# EAGLE library part STM32L496V (library CougsInSpace)
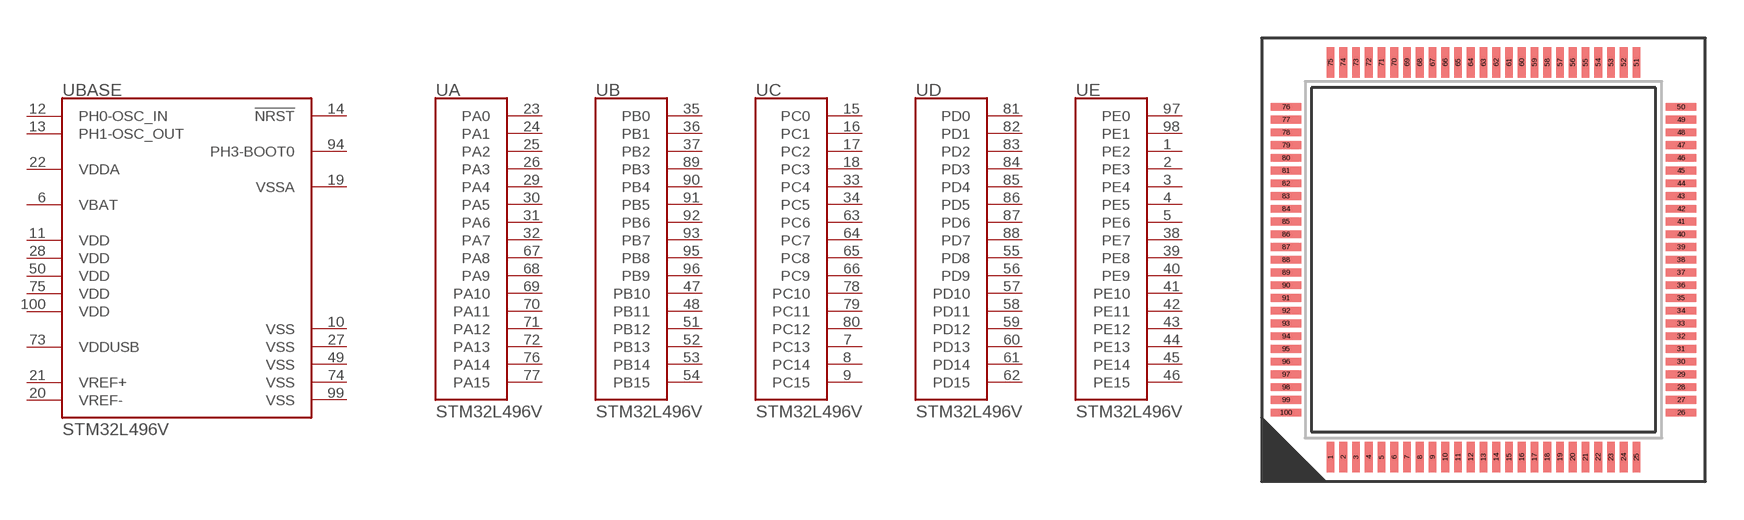
[diagram p18: symbol with the pads of QFP100-14X14; footprint QFP100-14X14]

Designator prefix U; gates BASE=STM32L496_BASE A=GPIO_A B=GPIO_B C=GPIO_C D=GPIO_D E=GPIO_E

## STM32L496VT  [QFP100-14X14]
1  E:PE2
2  E:PE3
3  E:PE4
4  E:PE5
5  E:PE6
6  BASE:VBAT  pas
7  C:PC13
8  C:PC14
9  C:PC15
10  BASE:VSS  pwr
11  BASE:VDD  pwr
12  BASE:PH0-OSC_IN
13  BASE:PH1-OSC_OUT
14  BASE:!NRST  in
15  C:PC0
16  C:PC1
17  C:PC2
18  C:PC3
19  BASE:VSSA  pwr
20  BASE:VREF-  in
21  BASE:VREF+  in
22  BASE:VDDA  pwr
23  A:PA0
24  A:PA1
25  A:PA2
26  A:PA3
27  BASE:VSS  pwr
28  BASE:VDD  pwr
29  A:PA4
30  A:PA5
31  A:PA6
32  A:PA7
33  C:PC4
34  C:PC5
35  B:PB0
36  B:PB1
37  B:PB2
38  E:PE7
39  E:PE8
40  E:PE9
41  E:PE10
42  E:PE11
43  E:PE12
44  E:PE13
45  E:PE14
46  E:PE15
47  B:PB10
48  B:PB11
49  BASE:VSS  pwr
50  BASE:VDD  pwr
51  B:PB12
52  B:PB13
53  B:PB14
54  B:PB15
55  D:PD8
56  D:PD9
57  D:PD10
58  D:PD11
59  D:PD12
60  D:PD13
61  D:PD14
62  D:PD15
63  C:PC6
64  C:PC7
65  C:PC8
66  C:PC9
67  A:PA8
68  A:PA9
69  A:PA10
70  A:PA11
71  A:PA12
72  A:PA13
73  BASE:VDDUSB  pwr
74  BASE:VSS  pwr
75  BASE:VDD  pwr
76  A:PA14
77  A:PA15
78  C:PC10
79  C:PC11
80  C:PC12
81  D:PD0
82  D:PD1
83  D:PD2
84  D:PD3
85  D:PD4
86  D:PD5
87  D:PD6
88  D:PD7
89  B:PB3
90  B:PB4
91  B:PB5
92  B:PB6
93  B:PB7
94  BASE:PH3-BOOT0  in
95  B:PB8
96  B:PB9
97  E:PE0
98  E:PE1
99  BASE:VSS  pwr
100  BASE:VDD  pwr

## Footprint QFP100-14X14 (pad centres in mm)
smd 0.3 x 1.2: 1 -6,-7.75; 2 -5.5,-7.75; 3 -5,-7.75; 4 -4.5,-7.75; 5 -4,-7.75; 6 -3.5,-7.75; 7 -3,-7.75; 8 -2.5,-7.75; 9 -2,-7.75; 10 -1.5,-7.75; 11 -1,-7.75; 12 -0.5,-7.75; 13 0,-7.75; 14 0.5,-7.75; 15 1,-7.75; 16 1.5,-7.75; 17 2,-7.75; 18 2.5,-7.75; 19 3,-7.75; 20 3.5,-7.75; 21 4,-7.75; 22 4.5,-7.75; 23 5,-7.75; 24 5.5,-7.75; 25 6,-7.75; 51 6,7.75; 52 5.5,7.75; 53 5,7.75; 54 4.5,7.75; 55 4,7.75; 56 3.5,7.75; 57 3,7.75; 58 2.5,7.75; 59 2,7.75; 60 1.5,7.75; 61 1,7.75; 62 0.5,7.75; 63 0,7.75; 64 -0.5,7.75; 65 -1,7.75; 66 -1.5,7.75; 67 -2,7.75; 68 -2.5,7.75; 69 -3,7.75; 70 -3.5,7.75; 71 -4,7.75; 72 -4.5,7.75; 73 -5,7.75; 74 -5.5,7.75; 75 -6,7.75
smd 1.2 x 0.3: 26 7.75,-6; 27 7.75,-5.5; 28 7.75,-5; 29 7.75,-4.5; 30 7.75,-4; 31 7.75,-3.5; 32 7.75,-3; 33 7.75,-2.5; 34 7.75,-2; 35 7.75,-1.5; 36 7.75,-1; 37 7.75,-0.5; 38 7.75,0; 39 7.75,0.5; 40 7.75,1; 41 7.75,1.5; 42 7.75,2; 43 7.75,2.5; 44 7.75,3; 45 7.75,3.5; 46 7.75,4; 47 7.75,4.5; 48 7.75,5; 49 7.75,5.5; 50 7.75,6; 76 -7.75,6; 77 -7.75,5.5; 78 -7.75,5; 79 -7.75,4.5; 80 -7.75,4; 81 -7.75,3.5; 82 -7.75,3; 83 -7.75,2.5; 84 -7.75,2; 85 -7.75,1.5; 86 -7.75,1; 87 -7.75,0.5; 88 -7.75,0; 89 -7.75,-0.5; 90 -7.75,-1; 91 -7.75,-1.5; 92 -7.75,-2; 93 -7.75,-2.5; 94 -7.75,-3; 95 -7.75,-3.5; 96 -7.75,-4; 97 -7.75,-4.5; 98 -7.75,-5; 99 -7.75,-5.5; 100 -7.75,-6